# Altium schematic symbol library PCIe_x1_edge.SchLib: 1 symbol
Pins are listed as number, name and electrical type; pins without a type are passive.

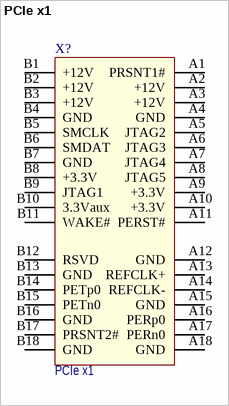
[diagram p0: symbol PCIe x1]

## PCIe x1
designator X?
PCI express x1 edge connector; Потребление, Вт: 0.0; Назначение: PCI express x1 edge connector; Наименование: PCIe x1
footprint PCIe_x1_edge (PCI express x1 edge connector)
pins: A1 PRSNT1#, A2 +12V, A3 +12V, A4 GND, A5 JTAG2, A6 JTAG3, A7 JTAG4, A8 JTAG5, A9 +3.3V, A10 +3.3V, A11 PERST#, A12 GND, A13 REFCLK+, A14 REFCLK-, A15 GND, A16 PERp0, A17 PERn0, A18 GND, B1 +12V, B2 +12V, B3 +12V, B4 GND, B5 SMCLK, B6 SMDAT, B7 GND, B8 +3.3V, B9 JTAG1, B10 3.3Vaux, B11 WAKE#, B12 RSVD, B13 GND, B14 PETp0, B15 PETn0, B16 GND, B17 PRSNT2#, B18 GND